# Altium schematic symbol library Socket 2.SchLib: 1 symbol
Pins are listed as number, name and electrical type; pins without a type are passive.

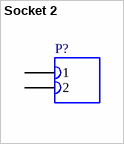
[diagram p0: symbol Socket 2]

## Socket 2
designator P?
Socket, 2-Pin
pins: 1, 2